# EAGLE library part AOZ1036 (library Custom_old)
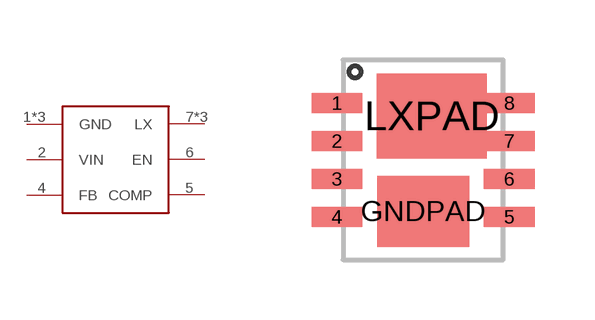
[diagram p8: symbol with the pads of AOZ1036; footprint AOZ1036]

Designator prefix -

## AOZ1036  [AOZ1036]
1  GND
2  VIN
3  GND
4  FB
5  COMP
6  EN
7  LX
8  LX
GNDPAD  GND
LXPAD  LX

## Footprint AOZ1036 (pad centres in mm)
smd 1.27 x 0.5: 1 -2.155,1.425; 2 -2.155,0.475; 3 -2.155,-0.475; 4 -2.155,-1.425; 5 2.155,-1.425; 6 2.155,-0.475; 7 2.155,0.475; 8 2.155,1.425
smd 2.3 x 1.775: GNDPAD 0,-1.29
smd 2.75 x 2.125: LXPAD 0.22,1.1